# Altium footprint library mypcblib.PcbLib: 90 footprints (part 2 of 6)
Each footprint in its own frame and in the unit in brackets; x right, y up, seen from the top. Pads: shape width x height; smd on the part's side, far side on the other; paste and mask are expansions set on the pad; w line width, h text height; cw(c..) or ccw(c..) is an arc to the next point about the centre after c.
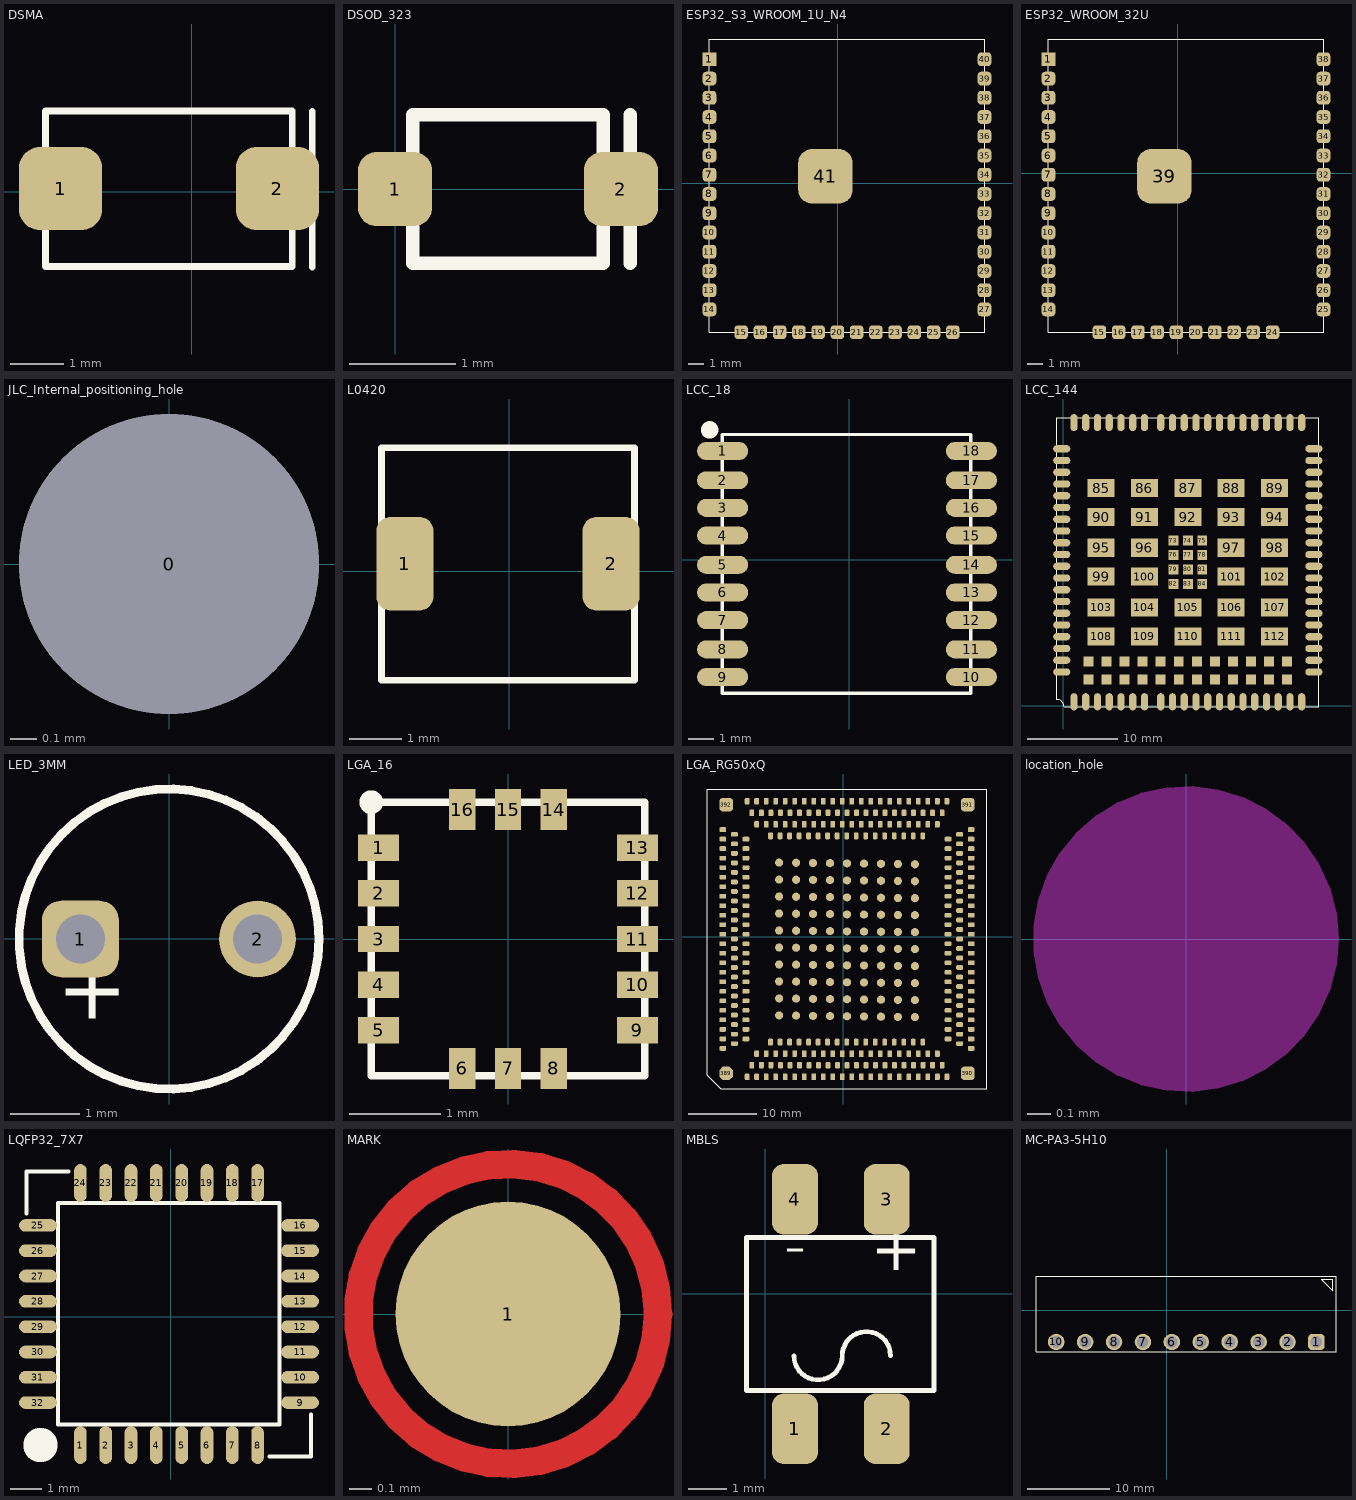
[diagram p1: the footprints below, top view; thin cyan lines are the x and y axes]

## DSMA [mm]
pads (2):
  rrect50% 1.55x1.55 smd: 1(-2.44,0.06) 2(1.6,0.06)
Top Overlay:
  lines w0.127: 2.25,-1.4 2.25,1.5 ; -2.722,-1.391 -2.722,1.505 1.875,1.505 1.875,-1.391 -2.722,-1.391
3D body "User Library-DO-214AC SMA.STEP": height 2.4, standoff 0, extent -3.04,-1.23 2.16,1.37

## DSOD_323 [mm]
pads (2):
  rrect50% 0.7x0.7 smd: 1(0,0) 2(2.13,0)
Top Overlay:
  lines w0.127: 2.22,-0.7 2.22,0.7 ; 0.164,-0.699 1.964,-0.699 1.964,0.701 0.164,0.701 0.164,-0.699
3D body "User Library-SOD-323.STEP": height 1.1, standoff 0, extent -0.21,-0.685 2.39,0.665

## ESP32_S3_WROOM_1U_N4 [mm]
pads (41):
  rect 0.9x0.9 smd: 1(-8.47,8.17)
  rrect50% 0.9x0.9 smd: 2(-8.47,6.9) 3(-8.47,5.63) 4(-8.47,4.36) 5(-8.47,3.09) 6(-8.47,1.82) 7(-8.47,0.55) 8(-8.47,-0.72) 9(-8.47,-1.99) 10(-8.47,-3.26) 11(-8.47,-4.53) 12(-8.47,-5.8) 13(-8.47,-7.07) 14(-8.47,-8.34) 15(-6.38,-9.84) 16(-5.11,-9.84) 17(-3.84,-9.84) 18(-2.57,-9.84) 19(-1.3,-9.84) 20(-0.03,-9.84) 21(1.24,-9.84) 22(2.51,-9.84) 23(3.78,-9.84) 24(5.05,-9.84) 25(6.32,-9.84) 26(7.59,-9.84) 27(9.68,-8.34) 28(9.68,-7.07) 29(9.68,-5.8) 30(9.68,-4.53) 31(9.68,-3.26) 32(9.68,-1.99) 33(9.68,-0.72) 34(9.68,0.55) 35(9.68,1.82) 36(9.68,3.09) 37(9.68,4.36) 38(9.68,5.63) 39(9.68,6.9) 40(9.68,8.17)
  rrect50% 3.6x3.6 smd: 41(-0.82,0.45)
Top Overlay:
  lines w0.08: -8.47,-9.84 -8.47,9.51 9.68,9.51 9.68,-9.84 -8.47,-9.84

## ESP32_WROOM_32U [mm]
pads (39):
  rect 0.9x0.9 smd: 1(-8.54,7.53)
  rrect50% 0.9x0.9 smd: 2(-8.54,6.26) 3(-8.54,4.99) 4(-8.54,3.72) 5(-8.54,2.45) 6(-8.54,1.18) 7(-8.54,-0.09) 8(-8.54,-1.36) 9(-8.54,-2.63) 10(-8.54,-3.9) 11(-8.54,-5.17) 12(-8.54,-6.44) 13(-8.54,-7.71) 14(-8.54,-8.98) 15(-5.18,-10.48) 16(-3.91,-10.48) 17(-2.64,-10.48) 18(-1.37,-10.48) 19(-0.1,-10.48) 20(1.17,-10.48) 21(2.44,-10.48) 22(3.71,-10.48) 23(4.98,-10.48) 24(6.25,-10.48) 25(9.61,-8.98) 26(9.61,-7.71) 27(9.61,-6.44) 28(9.61,-5.17) 29(9.61,-3.9) 30(9.61,-2.63) 31(9.61,-1.36) 32(9.61,-0.09) 33(9.61,1.18) 34(9.61,2.45) 35(9.61,3.72) 36(9.61,4.99) 37(9.61,6.26) 38(9.61,7.53)
  rrect50% 3.6x3.6 smd: 39(-0.89,-0.19)
Top Overlay:
  lines w0.08: -8.54,-10.48 9.61,-10.48 9.61,8.87 -8.54,8.87 -8.54,-10.48

## JLC_Internal_positioning_hole [mm] "1.152*1.3"
pads (1):
  round 1.152 hole 1.152 paste+1.152 mask+0.148: 0(0,0)

## L0420 [mm]
pads (2):
  rrect50% 1.1x1.8 smd: 1(-2,0.14) 2(1.95,0.14)
Top Overlay:
  lines w0.127: -2.45,-0.765 -2.45,1.035 ; 2.4,-0.765 2.4,1.035 ; -2.45,-2.09 2.4,-2.09 2.4,2.36 -2.45,2.36 -2.45,-2.09

## LCC_18 [mm]
pads (18):
  oval 2x0.7 smd: 1(-4.953,4.255) 2(-4.953,3.111) 3(-4.953,2.032) 4(-4.953,0.953) 5(-4.953,-0.191) 6(-4.953,-1.27) 7(-4.953,-2.349) 8(-4.953,-3.492) 9(-4.953,-4.572) 10(4.763,-4.572) 11(4.763,-3.492) 12(4.763,-2.349) 13(4.763,-1.27) 14(4.763,-0.191) 15(4.763,0.953) 16(4.763,2.032) 17(4.763,3.111) 18(4.763,4.255)
Top Overlay:
  circle w0.5: c-5.461,5.08 r0.09
  lines w0.127: -4.966,-5.204 -4.966,4.896 4.734,4.896 4.734,-5.204 -4.966,-5.204

## LCC_144 [mm]
pads (144):
  oval 0.8x1.9 smd mask+0.05: 1(1.166,0.456) 2(2.466,0.456) 3(3.766,0.456) 4(5.066,0.456) 5(6.366,0.456) 6(7.666,0.456) 7(8.966,0.456) 8(13.366,0.456) 9(14.666,0.456) 10(15.966,0.456) 11(17.266,0.456) 12(18.566,0.456) 13(19.866,0.456) 14(21.166,0.456) 15(22.466,0.456) 16(23.766,0.456) 17(25.066,0.456) 18(26.366,0.456) 37(26.366,31.356) 38(25.066,31.356) 39(23.766,31.356) 40(22.466,31.356) 41(21.166,31.356) 42(19.866,31.356) 43(18.566,31.356) 44(17.266,31.356) 45(15.966,31.356) 46(14.666,31.356) 47(13.366,31.356) 48(8.966,31.356) 49(7.666,31.356) 50(6.366,31.356) 51(5.066,31.356) 52(3.766,31.356) 53(2.466,31.356) 54(1.166,31.356) 141(10.766,0.456) 142(12.066,0.456) 143(12.066,31.356) 144(10.766,31.356)
  oval 1.9x0.8 smd mask+0.05: 19(27.716,6.356) 20(27.716,7.656) 21(27.716,8.956) 22(27.716,10.256) 23(27.716,11.556) 24(27.716,12.856) 25(27.716,14.156) 26(27.716,15.456) 27(27.716,16.756) 28(27.716,18.056) 29(27.716,19.356) 30(27.716,20.656) 31(27.716,21.956) 32(27.716,23.256) 33(27.716,24.556) 34(27.716,25.856) 35(27.716,27.156) 36(27.716,28.456) 55(-0.184,28.456) 56(-0.184,27.156) 57(-0.184,25.856) 58(-0.184,24.556) 59(-0.184,23.256) 60(-0.184,21.956) 61(-0.184,20.656) 62(-0.184,19.356) 63(-0.184,18.056) 64(-0.184,16.756) 65(-0.184,15.456) 66(-0.184,14.156) 67(-0.184,12.856) 68(-0.184,11.556) 69(-0.184,10.256) 70(-0.184,8.956) 71(-0.184,7.656) 72(-0.184,6.356) 113(-0.184,5.056) 114(-0.184,3.756) 115(27.716,5.056) 116(27.716,3.756)
  rect 1.1x1.1 smd mask+0.05: 73(12.166,18.306) 74(13.766,18.306) 75(15.366,18.306) 76(12.166,16.706) 77(13.766,16.706) 78(15.366,16.706) 79(12.166,15.106) 80(13.766,15.106) 81(15.366,15.106) 82(12.166,13.506) 83(13.766,13.506) 84(15.366,13.506) 117(2.766,4.906) 118(4.766,4.906) 119(6.766,4.906) 120(8.766,4.906) 121(10.766,4.906) 122(12.766,4.906) 123(14.766,4.906) 124(16.766,4.906) 125(18.766,4.906) 126(20.766,4.906) 127(22.766,4.906) 128(24.766,4.906) 129(2.766,2.906) 130(4.766,2.906) 131(6.766,2.906) 132(8.766,2.906) 133(10.766,2.906) 134(12.766,2.906) 135(14.766,2.906) 136(16.766,2.906) 137(18.766,2.906) 138(20.766,2.906) 139(22.766,2.906) 140(24.766,2.906)
  rect 3x2 smd mask+0.05: 85(4.166,24.106) 86(8.966,24.106) 87(13.766,24.106) 88(18.566,24.106) 89(23.366,24.106) 90(4.166,20.906) 91(8.966,20.906) 92(13.766,20.906) 93(18.566,20.906) 94(23.366,20.906) 95(4.166,17.506) 96(8.966,17.506) 97(18.566,17.506) 98(23.366,17.506) 99(4.166,14.306) 100(8.966,14.306) 101(18.566,14.306) 102(23.366,14.306) 103(4.166,10.906) 104(8.966,10.906) 105(13.766,10.906) 106(18.566,10.906) 107(23.366,10.906) 108(4.166,7.706) 109(8.966,7.706) 110(13.766,7.706) 111(18.566,7.706) 112(23.366,7.706)
Top Overlay:
  lines w0.127: -0.734,0.706 cw(c-0.734,-0.094) 0.066,-0.094 28.266,-0.094 28.266,31.906 -0.734,31.906 -0.734,0.706

## LED_3MM [mm]
pads (2):
  rrect50% 1.1x1.1 hole 0.7: 1(-1.273,-0.003)
  round 1.1 hole 0.7: 2(1.267,-0.003)
Top Overlay:
  circle w0.127: c-0.003,-0.003 r2.15
  text "+" at -1.61,-1.438 h1.52
3D body "CircuitWorks-LED DIP 3MM.STEP": height 6.5, standoff -2, extent -1.6,-1.88 1.9,1.92

## LGA_16 [mm]
pads (16):
  rect 0.45x0.29 smd: 1(-1.42,1) 2(-1.42,0.5) 3(-1.42,0) 4(-1.42,-0.5) 5(-1.42,-1) 9(1.42,-1) 10(1.42,-0.5) 11(1.42,0) 12(1.42,0.5) 13(1.42,1)
  rect 0.29x0.45 smd: 6(-0.5,-1.42) 7(0,-1.42) 8(0.5,-1.42) 14(0.5,1.42) 15(0,1.42) 16(-0.5,1.42)
Top Overlay:
  circle w0.127: c-1.5,1.5 r0.067
  lines w0.08: -1.5,-1.5 -1.5,1.5 1.5,1.5 1.5,-1.5 -1.5,-1.5

## LGA_RG50xQ [mm]
pads (392):
  rrect50% 0.7x1 smd: 1(-14.14,-20.585) 2(-13.44,-18.885) 3(-12.74,-17.185) 4(-12.74,-20.585) 5(-12.04,-18.885) 6(-11.34,-17.185) 7(-11.34,-20.585) 8(-10.64,-18.885) 9(-9.94,-17.185) 10(-9.94,-20.585) 11(-9.24,-18.885) 12(-8.54,-17.185) 13(-8.54,-20.585) 14(-7.84,-18.885) 15(-7.14,-17.185) 16(-7.14,-20.585) 17(-6.44,-18.885) 18(-5.74,-17.185) 19(-5.74,-20.585) 20(-5.04,-18.885) 21(-4.34,-17.185) 22(-4.34,-20.585) 23(-3.64,-18.885) 24(-2.94,-17.185) 25(-2.94,-20.585) 26(-2.24,-18.885) 27(-1.54,-17.185) 28(-1.54,-20.585) 29(-0.84,-18.885) 30(-0.14,-17.185) 31(-0.14,-20.585) 32(0.56,-18.885) 33(1.26,-17.185) 34(1.26,-20.585) 35(1.96,-18.885) 36(2.66,-17.185) 37(2.66,-20.585) 38(3.36,-18.885) 39(4.06,-17.185) 40(4.06,-20.585) 41(4.76,-18.885) 42(5.46,-17.185) 43(5.46,-20.585) 44(6.16,-18.885) 45(6.86,-17.185) 46(6.86,-20.585) 47(7.56,-18.885) 48(8.26,-17.185) 49(8.26,-20.585) 50(8.96,-18.885) 51(9.66,-17.185) 52(9.66,-20.585) 53(10.36,-18.885) 54(11.06,-17.185) 55(11.06,-20.585) 56(11.76,-18.885) 57(12.46,-17.185) 58(12.46,-20.585) 59(13.16,-18.885) 60(13.86,-17.185) 61(13.86,-20.585) 62(14.56,-18.885) 63(15.26,-20.585) 133(15.26,19.965) 134(14.56,18.265) 135(13.86,16.565) 136(13.86,19.965) 137(13.16,18.265) 138(12.46,16.565) 139(12.46,19.965) 140(11.76,18.265) 141(11.06,16.565) 142(11.06,19.965) 143(10.36,18.265) 144(9.66,16.565) 145(9.66,19.965) 146(8.96,18.265) 147(8.26,16.565) 148(8.26,19.965) 149(7.56,18.265) 150(6.86,16.565) 151(6.86,19.965) 152(6.16,18.265) 153(5.46,16.565) 154(5.46,19.965) 155(4.76,18.265) 156(4.06,16.565) 157(4.06,19.965) 158(3.36,18.265) 159(2.66,16.565) 160(2.66,19.965) 161(1.96,18.265) 162(1.26,16.565) 163(1.26,19.965) 164(0.56,18.265) 165(-0.14,16.565) 166(-0.14,19.965) 167(-0.84,18.265) 168(-1.54,16.565) 169(-1.54,19.965) 170(-2.24,18.265) 171(-2.94,16.565) 172(-2.94,19.965) 173(-3.64,18.265) 174(-4.34,16.565) 175(-4.34,19.965) 176(-5.04,18.265) 177(-5.74,16.565) 178(-5.74,19.965) 179(-6.44,18.265) 180(-7.14,16.565) 181(-7.14,19.965) 182(-7.84,18.265) 183(-8.54,16.565) 184(-8.54,19.965) 185(-9.24,18.265) 186(-9.94,16.565) 187(-9.94,19.965) 188(-10.64,18.265) 189(-11.34,16.565) 190(-11.34,19.965) 191(-12.04,18.265) 192(-12.74,16.565) 193(-12.74,19.965) 194(-13.44,18.265) 195(-14.14,19.965) 265(-10.693,-15.485) 266(-9.293,-15.485) 267(-7.893,-15.485) 268(-6.493,-15.485) 269(-5.093,-15.485) 270(-3.693,-15.485) 271(-2.293,-15.485) 272(-0.893,-15.485) 273(0.507,-15.485) 274(1.907,-15.485) 275(3.307,-15.485) 276(4.707,-15.485) 277(6.107,-15.485) 278(7.507,-15.485) 279(8.907,-15.485) 280(10.307,-15.485) 281(11.707,-15.485) 282(11.707,14.865) 283(10.307,14.865) 284(8.907,14.865) 285(7.507,14.865) 286(6.107,14.865) 287(4.707,14.865) 288(3.307,14.865) 289(1.907,14.865) 290(0.507,14.865) 291(-0.893,14.865) 292(-2.293,14.865) 293(-3.693,14.865) 294(-5.093,14.865) 295(-6.493,14.865) 296(-7.893,14.865) 297(-9.293,14.865) 298(-10.693,14.865)
  rrect50% 1x0.7 smd: 64(18.835,-16.41) 65(17.135,-15.71) 66(15.435,-15.01) 67(18.835,-15.01) 68(17.135,-14.31) 69(15.435,-13.61) 70(18.835,-13.61) 71(17.135,-12.91) 72(15.435,-12.21) 73(18.835,-12.21) 74(17.135,-11.51) 75(15.435,-10.81) 76(18.835,-10.81) 77(17.135,-10.11) 78(15.435,-9.41) 79(18.835,-9.41) 80(17.135,-8.71) 81(15.435,-8.01) 82(18.835,-8.01) 83(17.135,-7.31) 84(15.435,-6.61) 85(18.835,-6.61) 86(17.135,-5.91) 87(15.435,-5.21) 88(18.835,-5.21) 89(17.135,-4.51) 90(15.435,-3.81) 91(18.835,-3.81) 92(17.135,-3.11) 93(15.435,-2.41) 94(18.835,-2.41) 95(17.135,-1.71) 96(15.435,-1.01) 97(18.835,-1.01) 98(17.135,-0.31) 99(15.435,0.39) 100(18.835,0.39) 101(17.135,1.09) 102(15.435,1.79) 103(18.835,1.79) 104(17.135,2.49) 105(15.435,3.19) 106(18.835,3.19) 107(17.135,3.89) 108(15.435,4.59) 109(18.835,4.59) 110(17.135,5.29) 111(15.435,5.99) 112(18.835,5.99) 113(17.135,6.69) 114(15.435,7.39) 115(18.835,7.39) 116(17.135,8.09) 117(15.435,8.79) 118(18.835,8.79) 119(17.135,9.49) 120(15.435,10.19) 121(18.835,10.19) 122(17.135,10.89) 123(15.435,11.59) 124(18.835,11.59) 125(17.135,12.29) 126(15.435,12.99) 127(18.835,12.99) 128(17.135,13.69) 129(15.435,14.39) 130(18.835,14.39) 131(17.135,15.09) 132(18.835,15.79) 196(-17.715,15.79) 197(-16.015,15.09) 198(-14.315,14.39) 199(-17.715,14.39) 200(-16.015,13.69) 201(-14.315,12.99) 202(-17.715,12.99) 203(-16.015,12.29) 204(-14.315,11.59) 205(-17.715,11.59) 206(-16.015,10.89) 207(-14.315,10.19) 208(-17.715,10.19) 209(-16.015,9.49) 210(-14.315,8.79) 211(-17.715,8.79) 212(-16.015,8.09) 213(-14.315,7.39) 214(-17.715,7.39) 215(-16.015,6.69) 216(-14.315,5.99) 217(-17.715,5.99) 218(-16.015,5.29) 219(-14.315,4.59) 220(-17.715,4.59) 221(-16.015,3.89) 222(-14.315,3.19) 223(-17.715,3.19) 224(-16.015,2.49) 225(-14.315,1.79) 226(-17.715,1.79) 227(-16.015,1.09) 228(-14.315,0.39) 229(-17.715,0.39) 230(-16.015,-0.31) 231(-14.315,-1.01) 232(-17.715,-1.01) 233(-16.015,-1.71) 234(-14.315,-2.41) 235(-17.715,-2.41) 236(-16.015,-3.11) 237(-14.315,-3.81) 238(-17.715,-3.81) 239(-16.015,-4.51) 240(-14.315,-5.21) 241(-17.715,-5.21) 242(-16.015,-5.91) 243(-14.315,-6.61) 244(-17.715,-6.61) 245(-16.015,-7.31) 246(-14.315,-8.01) 247(-17.715,-8.01) 248(-16.015,-8.71) 249(-14.315,-9.41) 250(-17.715,-9.41) 251(-16.015,-10.11) 252(-14.315,-10.81) 253(-17.715,-10.81) 254(-16.015,-11.51) 255(-14.315,-12.21) 256(-17.715,-12.21) 257(-16.015,-12.91) 258(-14.315,-13.61) 259(-17.715,-13.61) 260(-16.015,-14.31) 261(-14.315,-15.01) 262(-17.715,-15.01) 263(-16.015,-15.71) 264(-17.715,-16.41)
  round 1.2 smd: 299(-9.439,10.94) 300(-6.939,10.909) 301(-4.44,10.879) 302(-1.94,10.848) 303(0.56,10.818) 304(3.06,10.787) 305(5.56,10.756) 306(8.059,10.726) 307(10.559,10.695) 308(-9.439,8.44) 309(-6.939,8.409) 310(-4.44,8.379) 311(-1.94,8.348) 312(0.56,8.318) 313(3.06,8.287) 314(5.56,8.256) 315(8.059,8.226) 316(10.559,8.195) 317(-9.439,5.94) 318(-6.939,5.909) 319(-4.44,5.879) 320(-1.94,5.848) 321(0.56,5.818) 322(3.06,5.787) 323(5.56,5.756) 324(8.059,5.726) 325(10.559,5.695) 326(-9.439,3.44) 327(-6.939,3.409) 328(-4.44,3.379) 329(-1.94,3.348) 330(0.56,3.318) 331(3.06,3.287) 332(5.56,3.256) 333(8.059,3.226) 334(10.559,3.195) 335(-9.439,0.94) 336(-6.939,0.909) 337(-4.44,0.879) 338(-1.94,0.848) 339(0.56,0.818) 340(3.06,0.787) 341(5.56,0.756) 342(8.059,0.726) 343(10.559,0.695) 344(-9.439,-1.56) 345(-6.939,-1.591) 346(-4.44,-1.621) 347(-1.94,-1.652) 348(0.56,-1.682) 349(3.06,-1.713) 350(5.56,-1.744) 351(8.059,-1.774) 352(10.559,-1.805) 353(-9.439,-4.06) 354(-6.939,-4.091) 355(-4.44,-4.121) 356(-1.94,-4.152) 357(0.56,-4.182) 358(3.06,-4.213) 359(5.56,-4.244) 360(8.059,-4.274) 361(10.559,-4.305) 362(-9.439,-6.56) 363(-6.939,-6.591) 364(-4.44,-6.621) 365(-1.94,-6.652) 366(0.56,-6.682) 367(3.06,-6.713) 368(5.56,-6.744) 369(8.059,-6.774) 370(10.559,-6.805) 371(-9.439,-9.06) 372(-6.939,-9.091) 373(-4.44,-9.121) 374(-1.94,-9.152) 375(0.56,-9.182) 376(3.06,-9.213) 377(5.56,-9.244) 378(8.059,-9.274) 379(10.559,-9.305) 380(-9.439,-11.56) 381(-6.939,-11.591) 382(-4.44,-11.621) 383(-1.94,-11.652) 384(0.56,-11.682) 385(3.06,-11.713) 386(5.56,-11.744) 387(8.059,-11.774) 388(10.559,-11.805)
  oct 2x2 smd: 389(-17.215,-20.085)
  rrect50% 2x2 smd: 390(18.335,-20.085) 391(18.335,19.465) 392(-17.215,19.465)
Top Overlay:
  lines w0.127: -20.015,-20.385 -18.015,-22.385 21.135,-22.385 21.135,21.765 -20.015,21.765 -20.015,-20.385

## location_hole [mm]
Top Solder:
  circle w0.025: c0,0 r0.653
  region: -0.653,0 -0.653,-0.064 -0.628,-0.19 -0.578,-0.309 -0.507,-0.416 -0.416,-0.507 -0.309,-0.578 -0.19,-0.628 -0.064,-0.653 0,-0.653 0.064,-0.653 0.19,-0.628 0.309,-0.578 0.416,-0.507 0.507,-0.416 0.578,-0.309 0.628,-0.19 0.653,-0.064 0.653,0 0.653,0.064 0.628,0.19 0.578,0.309 0.507,0.416 0.416,0.507 0.309,0.578 0.19,0.628 0.064,0.653 0,0.653 -0.064,0.653 -0.19,0.628 -0.309,0.578 -0.416,0.507 -0.507,0.416 -0.578,0.309 -0.628,0.19 -0.653,0.064
Bottom Solder:
  circle w0.025: c0,0 r0.653
  region: -0.653,0 -0.653,-0.064 -0.628,-0.19 -0.578,-0.309 -0.507,-0.416 -0.416,-0.507 -0.309,-0.578 -0.19,-0.628 -0.064,-0.653 0,-0.653 0.064,-0.653 0.19,-0.628 0.309,-0.578 0.416,-0.507 0.507,-0.416 0.578,-0.309 0.628,-0.19 0.653,-0.064 0.653,0 0.653,0.064 0.628,0.19 0.578,0.309 0.507,0.416 0.416,0.507 0.309,0.578 0.19,0.628 0.064,0.653 0,0.653 -0.064,0.653 -0.19,0.628 -0.309,0.578 -0.416,0.507 -0.507,0.416 -0.578,0.309 -0.628,0.19 -0.653,0.064
Keep-Out Layer:
  pour cut-out: -0.653,0 -0.653,-0.064 -0.628,-0.19 -0.578,-0.309 -0.507,-0.416 -0.416,-0.507 -0.309,-0.578 -0.19,-0.628 -0.064,-0.653 0,-0.653 0.064,-0.653 0.19,-0.628 0.309,-0.578 0.416,-0.507 0.507,-0.416 0.578,-0.309 0.628,-0.19 0.653,-0.064 0.653,0 0.653,0.064 0.628,0.19 0.578,0.309 0.507,0.416 0.416,0.507 0.309,0.578 0.19,0.628 0.064,0.653 0,0.653 -0.064,0.653 -0.19,0.628 -0.309,0.578 -0.416,0.507 -0.507,0.416 -0.578,0.309 -0.628,0.19 -0.653,0.064
  board cut-out: -0.577,0 -0.577,-0.115 -0.489,-0.327 -0.327,-0.489 -0.115,-0.577 0,-0.577 0.115,-0.577 0.327,-0.489 0.489,-0.327 0.577,-0.115 0.577,0 0.577,0.115 0.489,0.327 0.327,0.489 0.115,0.577 0,0.577 -0.115,0.577 -0.327,0.489 -0.489,0.327 -0.577,0.115
Keep-Out Layer:
  circle w0.025: c0,0 r0.653
  circle w0.025: c0,0 r0.577

## LQFP32_7X7 [mm]
pads (32):
  oval 0.4x1.2 smd: 1(-2.85,-4.06) 2(-2.05,-4.06) 3(-1.25,-4.06) 4(-0.45,-4.06) 5(0.35,-4.06) 6(1.15,-4.06) 7(1.95,-4.06) 8(2.75,-4.06) 17(2.75,4.22) 18(1.95,4.22) 19(1.15,4.22) 20(0.35,4.22) 21(-0.45,4.22) 22(-1.25,4.22) 23(-2.05,4.22) 24(-2.85,4.22)
  oval 1.2x0.4 smd: 9(4.09,-2.72) 10(4.09,-1.92) 11(4.09,-1.12) 12(4.09,-0.32) 13(4.09,0.48) 14(4.09,1.28) 15(4.09,2.08) 16(4.09,2.88) 25(-4.19,2.88) 26(-4.19,2.08) 27(-4.19,1.28) 28(-4.19,0.48) 29(-4.19,-0.32) 30(-4.19,-1.12) 31(-4.19,-1.92) 32(-4.19,-2.72)
Top Overlay:
  circle w1: c-4.11,-4.06 r0.042
  lines w0.127: -4.556,3.26 -4.556,4.581 -3.23,4.581 ; -3.556,-2.869 -3.556,-2.569 ; -3.556,-2.069 -3.556,-1.769 ; -3.556,-1.269 -3.556,-0.969 ; -3.556,-0.469 -3.556,-0.169 ; -3.556,0.331 -3.556,0.631 ; -3.556,1.131 -3.556,1.431 ; -3.556,1.931 -3.556,2.231 ; -3.556,2.731 -3.556,3.031 ; -3.006,-3.419 -2.706,-3.419 ; -3.006,3.581 -2.706,3.581 ; -2.206,-3.419 -1.906,-3.419 ; -2.206,3.581 -1.906,3.581 ; -1.406,-3.419 -1.106,-3.419 ; -1.406,3.581 -1.106,3.581 ; -0.606,-3.419 -0.306,-3.419 ; -0.606,3.581 -0.306,3.581 ; 0.194,-3.419 0.494,-3.419 ; 0.194,3.581 0.494,3.581 ; 0.994,-3.419 1.294,-3.419 ; 0.994,3.581 1.294,3.581 ; 1.794,3.581 2.094,3.581 ; 2.094,-3.419 1.794,-3.419 2.594,-3.419 2.894,-3.419 ; 2.594,3.581 2.894,3.581 ; 3.12,-4.419 4.444,-4.419 4.444,-3.09 ; 3.444,-2.869 3.444,-2.569 ; 3.444,-2.069 3.444,-1.769 ; 3.444,-1.269 3.444,-0.969 ; 3.444,-0.469 3.444,-0.169 ; 3.444,0.331 3.444,0.631 ; 3.444,1.131 3.444,1.431 ; 3.444,1.931 3.444,2.231 ; 3.444,2.731 3.444,3.031 ; -3.556,-3.419 -3.556,3.581 3.444,3.581 3.444,-3.419 -3.556,-3.419
3D body "User Library-LQFP32.STEP": height 1.63, standoff -0.09, extent -4.54,-4.43 4.46,4.57

## MARK [mm]
pads (1):
  round 1 smd: 1(0,0)
Top Layer:
  circle w0.127: c0,0 r0.667
Top Solder:
  circle w0.127: c0,0 r0.667

## MBLS [mm]
pads (4):
  rrect50% 1.2x1.84 smd: 1(0.774,-3.529) 2(3.174,-3.529) 3(3.174,2.471) 4(0.774,2.471)
Top Overlay:
  lines w0.127: 0.749,-1.619 ccw(c1.379,-1.62) 2.01,-1.62 cw(c2.641,-1.62) 3.271,-1.621 ; -0.49,-2.53 -0.49,1.47 4.41,1.47 4.41,-2.53 -0.49,-2.53
  text "-" at 0.49,0.335 h2
  text "+" at 2.76,0.223 h2

## MC-PA3-5H10 [mm]
pads (10):
  rrect50% 2x2 hole 1.4: 1(18.16,-3.87)
  round 2 hole 1.4: 2(14.651,-3.87) 3(11.142,-3.87) 4(7.633,-3.87) 5(4.124,-3.87) 6(0.616,-3.87) 7(-2.893,-3.87) 8(-6.402,-3.87) 9(-9.911,-3.87) 10(-13.42,-3.87)
Top Overlay:
  lines w0.127: -15.869,-5.074 20.531,-5.074 20.531,4.126 -15.869,4.126 -15.869,-5.074 ; 18.72,3.77 20.16,3.77 20.16,2.33 18.72,3.77